# Altium footprint library Connector.PcbLib: 18 footprints (part 2 of 2)
Each footprint in its own frame and in the unit in brackets; x right, y up, seen from the top. Pads: shape width x height; smd on the part's side, far side on the other; paste and mask are expansions set on the pad; w line width, h text height; cw(c..) or ccw(c..) is an arc to the next point about the centre after c.
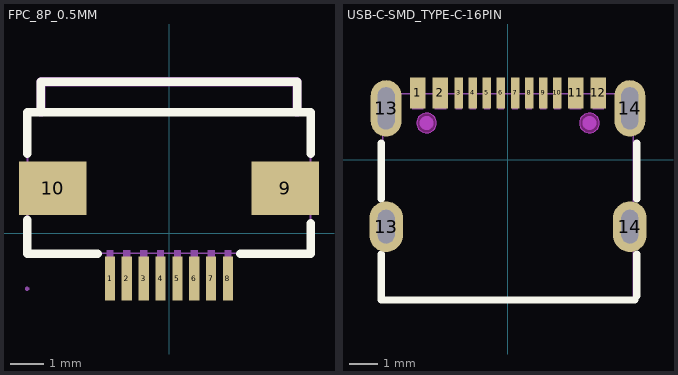
[diagram p1: the footprints below, top view; thin cyan lines are the x and y axes]

## FPC_8P_0.5MM [mm]
pads (10):
  rect 0.3x1.3 smd paste+0 mask+0.05: 1(-1.75,-1.34) 2(-1.252,-1.338) 3(-0.75,-1.34) 4(-0.25,-1.34) 5(0.25,-1.34) 6(0.75,-1.34) 7(1.25,-1.34) 8(1.75,-1.34)
  rect 2x1.6 smd paste+0.051: 9(3.45,1.34) 10(-3.45,1.34)
Top Overlay:
  lines w0.254: -4.2,0.4 -4.2,-0.6 -2.113,-0.6 ; -4.2,2.371 -4.2,3.6 4.2,3.6 4.2,2.371 ; -3.8,3.6 -3.8,4.5 3.8,4.5 3.8,3.6 ; 2.113,-0.6 4.2,-0.6 4.2,0.309
Mechanical 2:
  region: -3.927,3.6 -3.927,4.5 -3.927,4.525 -3.908,4.572 -3.872,4.608 -3.825,4.627 -3.8,4.627 3.8,4.627 3.825,4.627 3.872,4.608 3.908,4.572 3.927,4.525 3.927,4.5 3.927,3.6 3.927,3.547 3.853,3.473 3.747,3.473 3.673,3.547 3.673,3.6 3.673,4.373 -3.673,4.373 -3.673,3.6 -3.673,3.547 -3.747,3.473 -3.853,3.473 -3.927,3.547
Mechanical 6:
  lines w0.051: -4.2,-0.59 4.19,-0.59 4.2,-0.58 4.2,3.56 3.25,3.56 3.25,3.61 3.8,3.61 3.8,4.5 -3.8,4.5 -3.8,3.61 -3.25,3.61 -3.25,3.56 -3.8,3.56 -4.2,3.56 -4.2,-0.59
Mechanical 7:
  region: 1.65,-1 1.85,-1 1.85,-0.5 1.65,-0.5
  region: 1.15,-1 1.35,-1 1.35,-0.5 1.15,-0.5
  region: 0.65,-1 0.85,-1 0.85,-0.5 0.65,-0.5
  region: 0.15,-1 0.35,-1 0.35,-0.5 0.15,-0.5
  region: -0.35,-1 -0.15,-1 -0.15,-0.5 -0.35,-0.5
  region: -0.85,-1 -0.65,-1 -0.65,-0.5 -0.85,-0.5
  region: -1.352,-0.998 -1.152,-0.998 -1.152,-0.498 -1.352,-0.498
  region: -1.85,-1 -1.65,-1 -1.65,-0.5 -1.85,-0.5
Mechanical 8:
  region: -4.15,-1.64 -4.15,-1.665 -4.185,-1.7 -4.235,-1.7 -4.27,-1.665 -4.27,-1.64 -4.27,-1.615 -4.235,-1.58 -4.185,-1.58 -4.15,-1.615
Mechanical 9:
  region: -2.99,0.97 -4.2,0.97 -4.21,1.88 -2.99,1.88
  region: -1.85,-1.64 -1.65,-1.64 -1.65,-0.95 -1.85,-0.95
  region: -1.352,-1.64 -1.152,-1.64 -1.152,-0.95 -1.352,-0.95
  region: -0.85,-1.64 -0.65,-1.64 -0.65,-0.95 -0.85,-0.95
  region: -0.35,-1.64 -0.15,-1.64 -0.15,-0.95 -0.35,-0.95
  region: 1.65,-1.64 1.85,-1.64 1.85,-0.95 1.65,-0.95
  region: 1.15,-1.64 1.35,-1.64 1.35,-0.95 1.15,-0.95
  region: 0.65,-1.64 0.85,-1.64 0.85,-0.95 0.65,-0.95
  region: 2.99,1.88 4.2,1.88 4.21,0.97 2.99,0.97
  region: 0.15,-1.64 0.35,-1.64 0.35,-0.95 0.15,-0.95
3D body "FPC_8P_0.5MM.step": height 1.99, standoff -0.02, extent -4.25,-2.034 4.25,4.066

## USB-C-SMD_TYPE-C-16PIN [mm]
pads (16):
  rect 0.55x1.1 smd paste-100 mask+0.05: 1(-3.2,2.375) 2(-2.4,2.375) 11(2.4,2.375) 12(3.2,2.375)
  rect 0.3x1.1 smd paste-100 mask+0.05: 3(-1.75,2.375) 4(-1.25,2.375) 5(-0.75,2.375) 6(-0.25,2.375) 7(0.25,2.375) 8(0.75,2.375) 9(1.25,2.375) 10(1.75,2.375)
  oval 1.2x1.8 hole 0.6 slot 1.2 at 90 deg paste-2539.97 mask+0.05: 13(-4.325,-2.375) 14(4.325,-2.375)
  oval 1.1x2 hole 0.6 slot 1.5 at 90 deg paste-2539.97 mask+0.05: 13(-4.325,1.825) 14(4.325,1.825)
Top Overlay:
  lines w0.254: -4.5,-3.356 -4.5,-4.975 4.5,-4.975 ; -4.5,-1.394 -4.5,0.594 ; 4.572,-4.826 4.572,-3.353 ; 4.572,-1.397 4.572,0.597
Top Paste:
  drawing of 16 lines, arcs and shapes, not listed
Keep-Out Layer:
  board cut-out: -2.54,1.305 -2.54,1.235 -2.593,1.107 -2.692,1.008 -2.82,0.955 -2.96,0.955 -3.088,1.008 -3.187,1.107 -3.24,1.235 -3.24,1.305 -3.24,1.375 -3.187,1.503 -3.088,1.602 -2.96,1.655 -2.82,1.655 -2.692,1.602 -2.593,1.503 -2.54,1.375
  board cut-out: 3.24,1.305 3.24,1.235 3.187,1.107 3.088,1.008 2.96,0.955 2.821,0.955 2.692,1.008 2.593,1.107 2.54,1.235 2.54,1.305 2.54,1.375 2.593,1.503 2.692,1.602 2.821,1.655 2.96,1.655 3.088,1.602 3.187,1.503 3.24,1.375
Keep-Out Layer:
  circle w0.025: c2.89,1.305 r0.35
  circle w0.025: c-2.89,1.305 r0.35
  region: 3.24,1.305 3.24,1.235 3.187,1.107 3.088,1.008 2.96,0.955 2.821,0.955 2.692,1.008 2.593,1.107 2.54,1.235 2.54,1.305 2.54,1.375 2.593,1.503 2.692,1.602 2.821,1.655 2.96,1.655 3.088,1.602 3.187,1.503 3.24,1.375
  region: -2.54,1.305 -2.54,1.235 -2.593,1.107 -2.692,1.008 -2.82,0.955 -2.96,0.955 -3.088,1.008 -3.187,1.107 -3.24,1.235 -3.24,1.305 -3.24,1.375 -3.187,1.503 -3.088,1.602 -2.96,1.655 -2.82,1.655 -2.692,1.602 -2.593,1.503 -2.54,1.375
Mechanical 1:
  circle w0.025: c2.89,1.305 r0.35
  circle w0.025: c-2.89,1.305 r0.35
Mechanical 6:
  circle w0.25: c-2.89,1.305 r0.125
  circle w0.25: c2.89,1.305 r0.125
Mechanical 15:
  region: 4.2,-2.025 4.45,-2.025 4.45,-2.725 4.2,-2.725
  region: -4.45,-2.025 -4.2,-2.025 -4.2,-2.725 -4.45,-2.725
  region: 4.2,2.349 4.45,2.349 4.45,1.249 4.2,1.249
  region: -4.45,2.349 -4.2,2.349 -4.2,1.249 -4.45,1.249
  region: 3,2.649 3.4,2.649 3.4,1.799 3,1.799
  region: 2.2,2.649 2.6,2.649 2.6,1.799 2.2,1.799
  region: -2.6,2.649 -2.2,2.649 -2.2,1.799 -2.6,1.799
  region: -3.4,2.649 -3,2.649 -3,1.799 -3.4,1.799
  region: 1.65,2.649 1.85,2.649 1.85,1.799 1.65,1.799
  region: 1.15,2.649 1.35,2.649 1.35,1.799 1.15,1.799
  region: 0.65,2.649 0.85,2.649 0.85,1.799 0.65,1.799
  region: 0.15,2.649 0.35,2.649 0.35,1.799 0.15,1.799
  region: -0.35,2.649 -0.15,2.649 -0.15,1.799 -0.35,1.799
  region: -1.35,2.649 -1.15,2.649 -1.15,1.799 -1.35,1.799
  region: -0.85,2.649 -0.65,2.649 -0.65,1.799 -0.85,1.799
  region: -1.85,2.649 -1.65,2.649 -1.65,1.799 -1.85,1.799
  region: -4.39,2.649 -4.39,2.624 -4.425,2.589 -4.475,2.589 -4.51,2.624 -4.51,2.649 -4.51,2.674 -4.475,2.709 -4.425,2.709 -4.39,2.674
  lines w0.051: -4.45,-5.001 4.45,-5.001 4.45,2.349 -4.45,2.349 -4.45,-5.001
3D body "USB-TYPE-C.step": height 3.11, standoff -1.06, extent -4.47,-5.047 4.47,2.763